# EAGLE library part FOD3120 (library IC)
OPTOISO 5KV 1CH GATE DRIVER 8DIP Manufacturer's datasheet <https://www.onsemi.com/pub/Collateral/FOD3120-D.pdf>
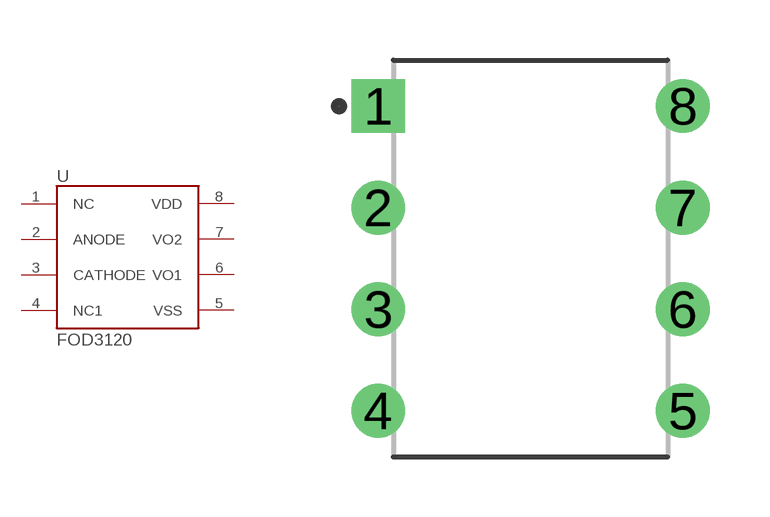
[diagram p39: symbol with the pads of FOD3120; footprint FOD3120]

Designator prefix U

## FOD3120 (CREATED_BY: PCBLayout.com; DIGIKEY_PARTNO: FOD3120-ND; MANUFACTURER: ON Semiconductor; MPN: FOD3120; PACKAGE: DIP-8)  [FOD3120]
1  NC  nc
2  ANODE  pas
3  CATHODE  pas
4  NC1  nc
5  VSS  pwr
6  VO1  out
7  VO2  out
8  VDD  pwr

## Footprint FOD3120 (pad centres in mm)
drill 0.84 square: 1 -3.81,3.81
drill 0.84: 2 -3.81,1.27; 3 -3.81,-1.27; 4 -3.81,-3.81; 5 3.81,-3.81; 6 3.81,-1.27; 7 3.81,1.27; 8 3.81,3.81